# EAGLE library part FROG12NMCOB (library BGASolder)
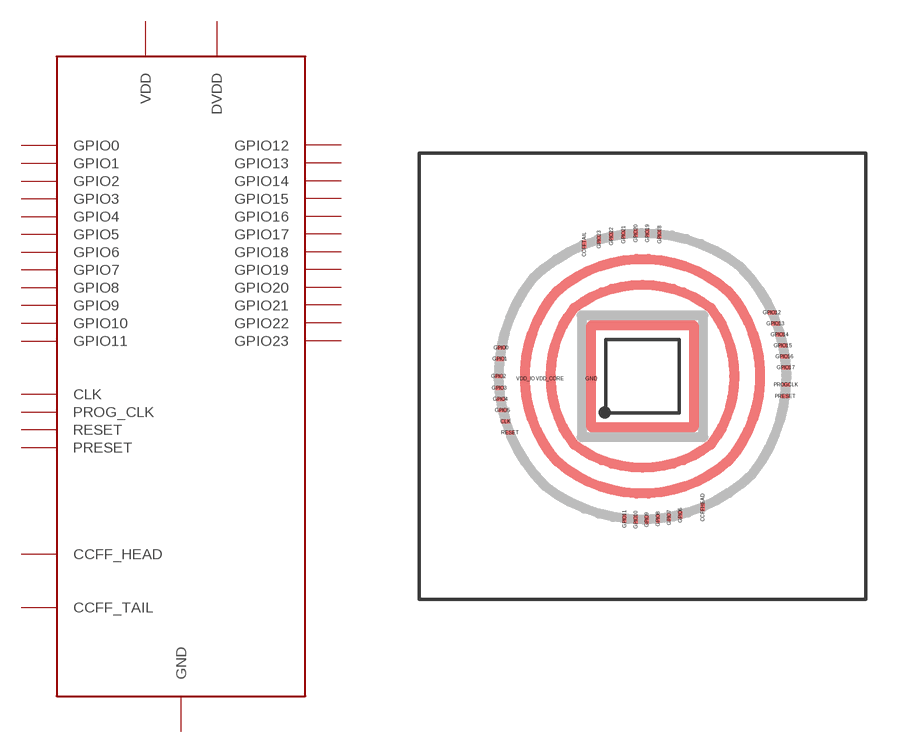
[diagram p2: symbol with the pads of FROG_COB; footprint FROG_COB]

Designator prefix U

## FROG12NMCOBCOB  [FROG_COB]
CCFFHEAD  CCFF_HEAD
CCFFTAIL  CCFF_TAIL
CLK  CLK
GND  GND
GPIO0  GPIO0
GPIO1  GPIO1
GPIO2  GPIO2
GPIO3  GPIO3
GPIO4  GPIO4
GPIO5  GPIO5
GPIO6  GPIO6
GPIO7  GPIO7
GPIO8  GPIO8
GPIO9  GPIO9
GPIO10  GPIO10
GPIO11  GPIO11
GPIO12  GPIO12
GPIO13  GPIO13
GPIO14  GPIO14
GPIO15  GPIO15
GPIO16  GPIO16
GPIO17  GPIO17
GPIO18  GPIO18
GPIO19  GPIO19
GPIO20  GPIO20
GPIO21  GPIO21
GPIO22  GPIO22
GPIO23  GPIO23
PRESET  PRESET
PROGCLK  PROG_CLK
RESET  RESET
VDD_CORE  VDD
VDD_IO  DVDD

## Footprint FROG_COB (pad centres in mm)
Chip On Board Footprint for the Frog12NM 3x3mm FPGA
smd 0.152 x 0.305: CCFFHEAD 2.468,-5.379; CCFFTAIL -2.389,5.421; GPIO6 1.549,-5.69; GPIO7 1.092,-5.791; GPIO8 0.635,-5.842; GPIO9 0.175,-5.875; GPIO10 -0.276,-5.875; GPIO11 -0.737,-5.842; GPIO18 0.702,5.825; GPIO19 0.2,5.875; GPIO20 -0.276,5.875; GPIO21 -0.778,5.824; GPIO22 -1.278,5.749; GPIO23 -1.779,5.624
smd 0.305 x 0.152: CLK -5.613,-1.854; GPIO0 -5.791,1.168; GPIO1 -5.842,0.711; GPIO2 -5.893,0; GPIO3 -5.867,-0.483; GPIO4 -5.817,-0.94; GPIO5 -5.74,-1.397; GPIO12 5.308,2.611; GPIO13 5.457,2.159; GPIO14 5.632,1.708; GPIO15 5.756,1.257; GPIO16 5.829,0.806; GPIO17 5.878,0.357; PRESET 5.849,-0.821; PROGCLK 5.876,-0.346; RESET -5.436,-2.311; VDD_CORE -3.8,-0.1; VDD_IO -4.8,-0.1
smd 0.406 x 0.203: GND -2.1,-0.1